# EAGLE library part AD8672 (library 1A-meinLib)
Duaö, Precision, Very Low Noise, Low Input Bias Current Operational Amplifier
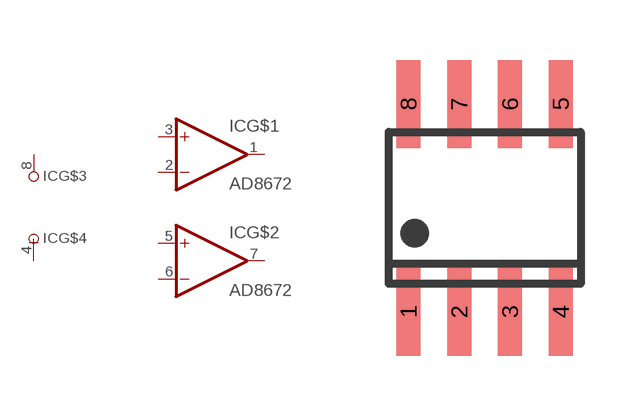
[diagram p163: symbol with the pads of SOIC8N; footprint SOIC8N]

Designator prefix IC; gates G$1=OPAMP G$2=OPAMP G$3=+UB G$4=-UB

## AD8672  [SOIC8N]
1  G$1:OUT  out
2  G$1:-IN  in
3  G$1:+IN  in
4  G$4:-UB  pwr
5  G$2:+IN  in
6  G$2:-IN  in
7  G$2:OUT  out
8  G$3:+UB  pwr

## Footprint SOIC8N (pad centres in mm)
smd 0.6 x 2.2: 1 -1.905,-2.6; 2 -0.635,-2.6; 3 0.635,-2.6; 4 1.905,-2.6; 5 1.905,2.6; 6 0.635,2.6; 7 -0.635,2.6; 8 -1.905,2.6